# EAGLE library part MA125 (library myparts)
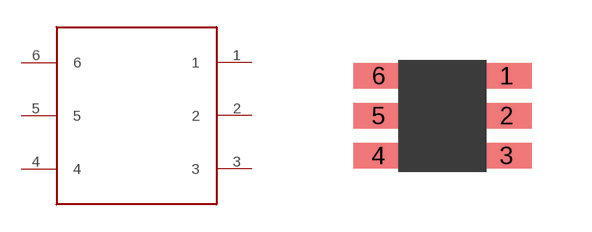
[diagram p0: symbol with the pads of MA125; footprint MA125]

Designator prefix -

## MA125  [MA125]
1  1
2  2
3  3
4  4
5  5
6  6

## Footprint MA125 (pad centres in mm)
smd 1.27 x 0.635: 1 2,-0.6; 2 2,-1.6; 3 2,-2.6; 4 -1.2,-2.6; 5 -1.2,-1.6; 6 -1.2,-0.6